# Altium footprint library NSDN-40mm.PcbLib: 2 footprints
Each footprint in its own frame and in the unit in brackets; x right, y up, seen from the top. Pads: shape width x height; smd on the part's side, far side on the other; paste and mask are expansions set on the pad; w line width, h text height; cw(c..) or ccw(c..) is an arc to the next point about the centre after c.
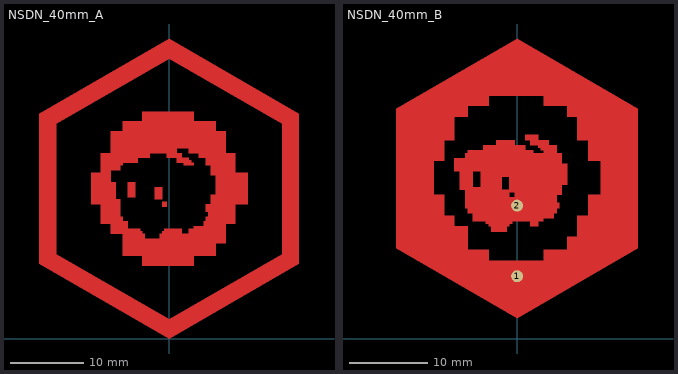
[diagram p0: the footprints below, top view; thin cyan lines are the x and y axes]

## NSDN_40mm_A [mil]
Top Layer:
  region: 0,0 -697,403 -606,455 0,105 607,455 697,403
  region: -697,403
  region: -697,403 -698,1208 0,1610 0,1505 -606,1155 -606,455
  region: 0,1610 697,1208 697,403 607,455 607,1155 0,1505
  region: -222,841 -182,841 -182,762 -222,762
  region: -77,815 -38,815 -38,749 -77,749
  region: -38,736 -12,736 -12,710 -38,710
  region: -366,893 -418,893 -418,723 -366,723 -366,618 -314,618 -314,565 -248,565 -248,447 -143,447 -143,393 133,393 133,447 251,447 251,513 303,513 303,618 356,618 355,723 421,723 421,893 356,893 251,880 251,775 224,775 224,723 198,723 198,683 211,683 211,657 198,657 198,631 185,631 185,605 133,605 133,591 106,591 106,565 67,565 67,591 -25,591 -25,578 -38,578 -38,565 -51,565 -51,539 -130,539 -130,565 -143,565 -143,578 -156,578 -156,591 -222,591 -222,631 -248,631 -248,657 -261,657 -261,749 -287,749 -287,841 -314,841 -314,906
  region: -366,893 -366,998 -314,998 -314,1116 -248,1116 -248,1169 -143,1169 -143,1220 133,1220 133,1169 251,1169 251,1116 303,1116 303,998 356,998 356,893 251,880 224,880 224,933 198,933 198,972 159,972 159,998 106,998 106,1025 41,1025 41,998 67,998 67,972 106,972 106,959 119,959 119.5,946 133,946 133,933 80,933 80,946 41,946 41,972 -12,972 -12,998 -104,998 -104,972 -169,972 -169,946 -248,946 -248,933 -261,933 -261,906 -314,906
Top Layer keep-out:
  region: 0,0

## NSDN_40mm_B [mil]
pads (2):
  round 60 smd: 1(0,314.96) 2(0,669.29)
Top Layer:
  region: -697,403
  region: 0,105 -606,455 -606,1155 0,1505 0,1220 -143,1220 -143,1169 -248,1169 -248,1116 -314,1116 -314,998 -366,998 -366,893 -419,893 -419,723 -366,723 -366,618 -314,618 -314,565 -248,565 -248,447 -143,447 -143,393 0,393
  region: 0,105 606,455 606,1155 0,1505 0,1220 133,1220 133,1169 251,1169 251,1116 303,1116 303,998 356,998 356,893 421,893 421,723 356,723 356,618 303,618 303,513 251,513 251,447 133,447 133,393 0,393
  region: -314,841 -314,906 -261,906 -261,933 -248,933 -248,946 -169,946 -169,972 -104,972 -104,998 -12,998 -12,972 41,972 41,946 80,946 80,933 133,933 133,946 119,946 119,959 106,959 106,972 66.5,972 66.5,998 41,998 41,1025 106,1025 106,998 159,998 159,972 198,972 198,933 224,933 224,880 251,880 251,775 224,775 224,723 -12,723 -12,736 -38,736 -38,815 -182,815 -182,841
  region: -287.5,841 -287.5,749 -261,749 -261,657 -248,657 -248,631 -222,631 -222,591.5 -156,591.5 -156,578 -143,578 -143,565 -130,565 -130,539 -51,539 -51,565 -38,565 -38,578 -25,578 -25,591 66.5,591 66.5,565 106.5,565 106.5,591.5 132.5,591.5 132.5,605 185,605 185,631 198,631 198,657 211,657 211,683 198,683 198,723 -12,723 -12,710 -38,710 -38,749 -77,749 -77,815 -182,815 -182,762 -222,762 -222,841
  region: -104,1047
Top Layer keep-out:
  region: 0,0
Top Solder:
  region: 0,105 606,455 606,1155 0,1505 0,1220 133,1220 133,1169 251,1169 251,1116 303,1116 303,998 356,998 356,893 421,893 421,723 356,723 356,618 303,618 303,513 251,513 251,447 133,447 133,393 0,393
  region: -287.5,841 -287.5,749 -261,749 -261,657 -248,657 -248,631 -222,631 -222,591.5 -156,591.5 -156,578 -143,578 -143,565 -130,565 -130,539 -51,539 -51,565 -38,565 -38,578 -25,578 -25,591 66.5,591 66.5,565 106.5,565 106.5,591.5 132.5,591.5 132.5,605 185,605 185,631 198,631 198,657 211,657 211,683 198,683 198,723 -12,723 -12,710 -38,710 -38,749 -77,749 -77,815 -182,815 -182,762 -222,762 -222,841
  region: -314,841 -314,906 -261,906 -261,933 -248,933 -248,946 -169,946 -169,972 -104,972 -104,998 -12,998 -12,972 41,972 41,946 80,946 80,933 133,933 133,946 119,946 119,959 106,959 106,972 66.5,972 66.5,998 41,998 41,1025 106,1025 106,998 159,998 159,972 198,972 198,933 224,933 224,880 251,880 251,775 224,775 224,723 -12,723 -12,736 -38,736 -38,815 -182,815 -182,841
  region: 0,105 -606,455 -606,1155 0,1505 0,1220 -143,1220 -143,1169 -248,1169 -248,1116 -314,1116 -314,998 -366,998 -366,893 -419,893 -419,723 -366,723 -366,618 -314,618 -314,565 -248,565 -248,447 -143,447 -143,393 0,393